# Altium footprint library CPU.PcbLib: 75 footprints (part 3 of 5)
Each footprint in its own frame and in the unit in brackets; x right, y up, seen from the top. Pads: shape width x height; smd on the part's side, far side on the other; paste and mask are expansions set on the pad; w line width, h text height; cw(c..) or ccw(c..) is an arc to the next point about the centre after c.
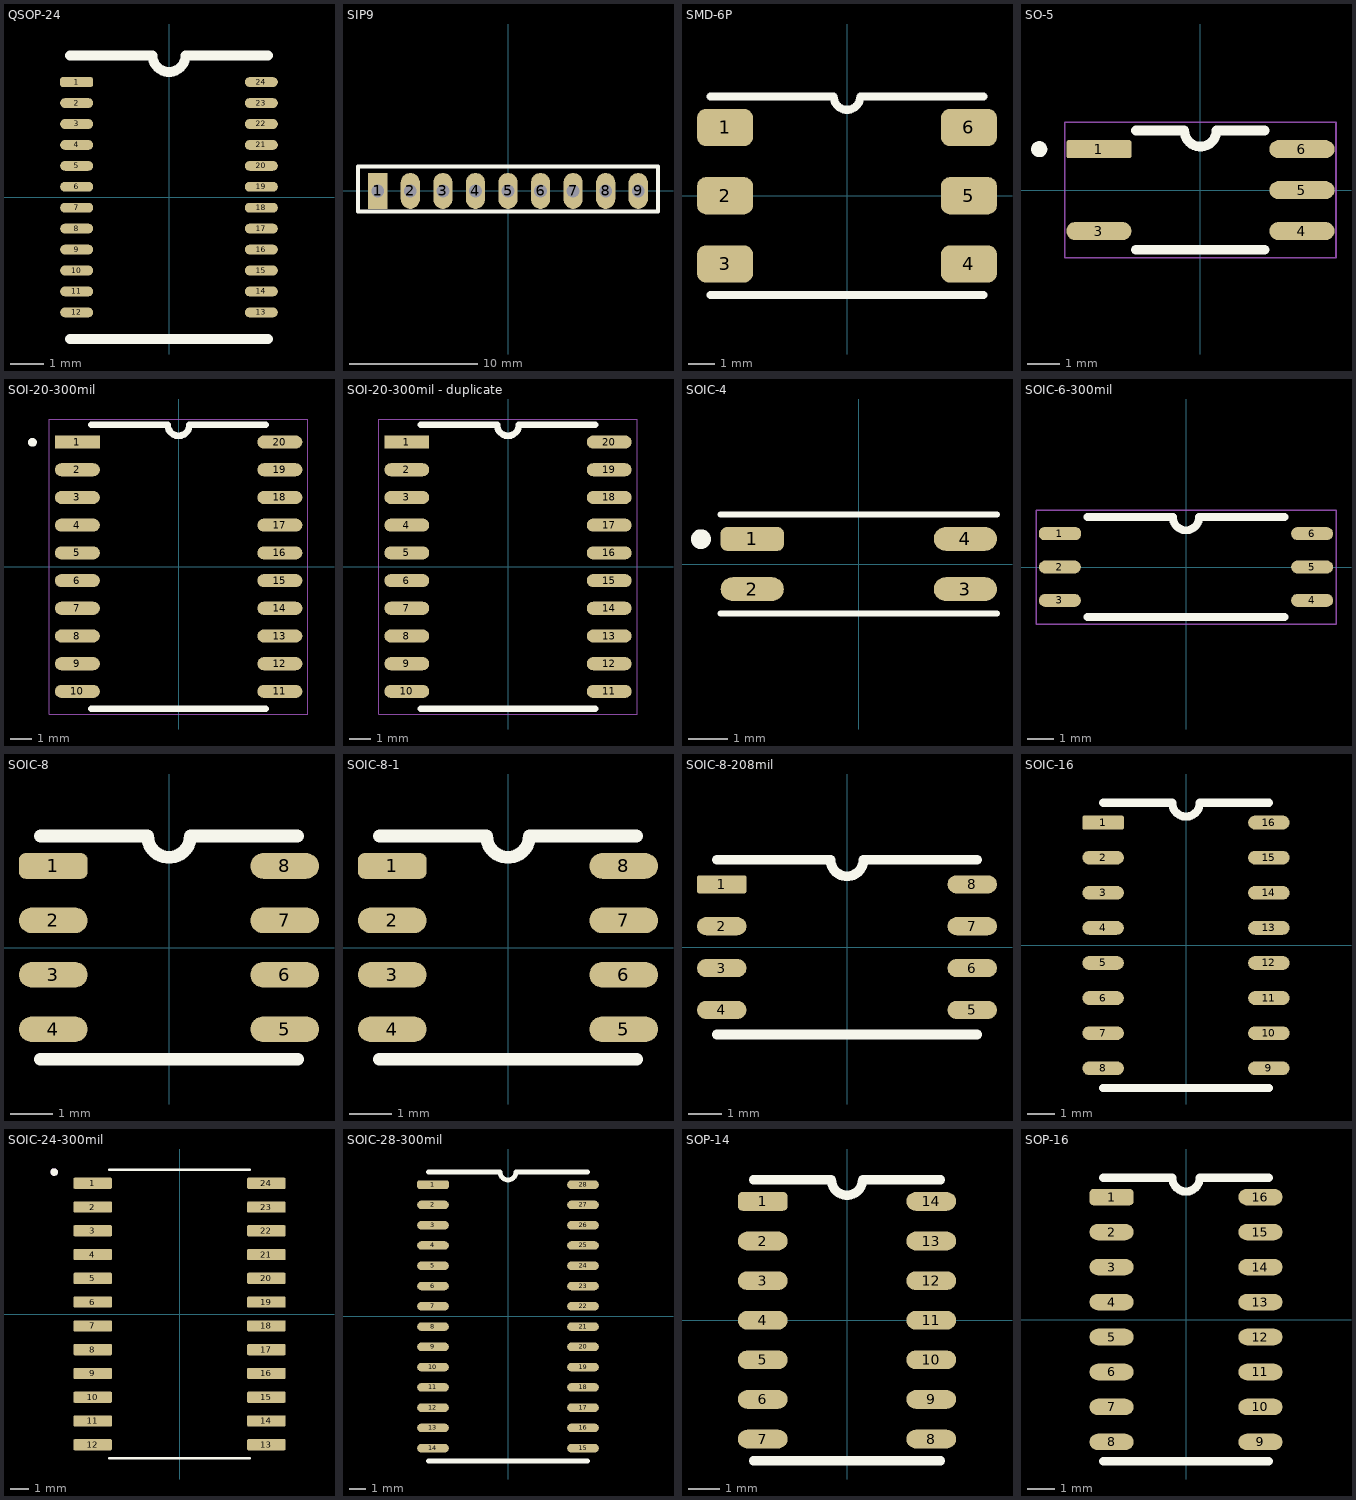
[diagram p2: the footprints below, top view; thin cyan lines are the x and y axes]

## QSOP-24 [mm]
pads (24):
  rrect50% 1x0.3 smd: 1(-2.8,3.492)
  oval 1x0.3 smd: 2(-2.8,2.857) 3(-2.8,2.222) 4(-2.8,1.587) 5(-2.8,0.953) 6(-2.8,0.318) 7(-2.8,-0.318) 8(-2.8,-0.953) 9(-2.8,-1.587) 10(-2.8,-2.222) 11(-2.8,-2.857) 12(-2.8,-3.492) 13(2.8,-3.492) 14(2.8,-2.857) 15(2.8,-2.222) 16(2.8,-1.587) 17(2.8,-0.953) 18(2.8,-0.318) 19(2.8,0.318) 20(2.8,0.953) 21(2.8,1.587) 22(2.8,2.222) 23(2.8,2.857) 24(2.8,3.492)
Top Overlay:
  lines w0.3: -3,-4.3 3,-4.3 ; -3,4.3 -0.5,4.3 ccw(c0,4.3) 0.5,4.3 3,4.3
3D body "C8051F855-C-IU.STEP": height 1.75, standoff 0, extent -3,-4.325 3,4.325

## SIP9 [mm]
pads (9):
  rect 1.5x2.8 hole 1: 1(-10.16,0)
  oval 1.5x2.8 hole 1: 2(-7.62,0) 3(-5.08,0) 4(-2.54,0) 5(0,0) 6(2.54,0) 7(5.08,0) 8(7.62,0) 9(10.16,0)
Top Overlay:
  lines w0.3: -11.7,-1.6 -11.7,1.9 11.7,1.9 11.7,-1.6 -11.7,-1.6
3D body "step_temp.STEP": height 8.95, standoff -3.8, extent -11.66,-1.5 11.66,1.5

## SMD-6P [mm]
pads (6):
  rrect50% 2.09x1.39 smd: 1(-4.54,2.54) 2(-4.54,0) 3(-4.54,-2.54) 4(4.54,-2.54) 5(4.54,0) 6(4.54,2.54)
Top Overlay:
  lines w0.3: -5.08,-3.7 5.08,-3.7 ; -5.08,3.7 -0.5,3.7 ccw(c0,3.7) 0.5,3.7 5.08,3.7
3D body "MOC3021S-TA1.STEP": height 5.09, standoff 0.01, extent -4.583,-4.255 4.583,4.255

## SO-5 [mm]
pads (5):
  rrect25% 2.02x0.56 smd: 1(-3.15,1.27)
  oval 2.02x0.56 smd: 3(-3.15,-1.27) 4(3.15,-1.27) 5(3.15,0) 6(3.15,1.27)
Top Overlay:
  circle w0.3: c-5,1.27 r0.1
  lines w0.3: -2,-1.85 2,-1.85 ; -2,1.85 -0.5,1.85 ccw(c0,1.85) 0.5,1.85 2,1.85
3D:
  circle w0.2: c-5,1.27 r0.1
Mechanical 15:
  lines w0.05: -4.205,-2.1 -4.205,2.1 4.205,2.1 4.205,-2.1 -4.205,-2.1
3D body "step_temp.STEP": height 2.8, standoff 0, extent -3.5,-1.8 3.5,1.8

## SOI-20-300mil [mm]
pads (20):
  rect 2.06x0.6 smd: 1(-4.64,5.715)
  oval 2.06x0.6 smd: 2(-4.64,4.445) 3(-4.64,3.175) 4(-4.64,1.905) 5(-4.64,0.635) 6(-4.64,-0.635) 7(-4.64,-1.905) 8(-4.64,-3.175) 9(-4.64,-4.445) 10(-4.64,-5.715) 11(4.64,-5.715) 12(4.64,-4.445) 13(4.64,-3.175) 14(4.64,-1.905) 15(4.64,-0.635) 16(4.64,0.635) 17(4.64,1.905) 18(4.64,3.175) 19(4.64,4.445) 20(4.64,5.715)
Top Overlay:
  circle w0.2: c-6.7,5.7 r0.1
  lines w0.3: -4,-6.5 4,-6.5 ; -4,6.5 -0.5,6.5 ccw(c0,6.5) 0.5,6.5 4,6.5
Mechanical 15:
  lines w0.05: -5.92,-6.75 5.92,-6.75 5.92,6.75 -5.92,6.75 -5.92,-6.75
3D body "ADM2582EBRWZ-REEL7.STEP": height 2.65, standoff 0, extent -5.162,-6.4 5.162,6.4

## SOI-20-300mil - duplicate [mm]
pads (20):
  rect 2.06x0.6 smd: 1(-4.64,5.715)
  oval 2.06x0.6 smd: 2(-4.64,4.445) 3(-4.64,3.175) 4(-4.64,1.905) 5(-4.64,0.635) 6(-4.64,-0.635) 7(-4.64,-1.905) 8(-4.64,-3.175) 9(-4.64,-4.445) 10(-4.64,-5.715) 11(4.64,-5.715) 12(4.64,-4.445) 13(4.64,-3.175) 14(4.64,-1.905) 15(4.64,-0.635) 16(4.64,0.635) 17(4.64,1.905) 18(4.64,3.175) 19(4.64,4.445) 20(4.64,5.715)
Top Overlay:
  lines w0.3: -4,-6.5 4,-6.5 ; -4,6.5 -0.5,6.5 ccw(c0,6.5) 0.5,6.5 4,6.5
Mechanical 15:
  lines w0.05: -5.92,-6.75 5.92,-6.75 5.92,6.75 -5.92,6.75 -5.92,-6.75
3D body "ADM2582EBRWZ-REEL7.STEP": height 2.65, standoff 0, extent -5.162,-6.4 5.162,6.4

## SOIC-4 [mm]
pads (4):
  rrect50% 1.6x0.6 smd: 1(-2.7,0.635)
  oval 1.6x0.6 smd: 2(-2.7,-0.635) 3(2.7,-0.635) 4(2.7,0.635)
Top Overlay:
  circle w0.3: c-4,0.63 r0.1
  lines w0.15: -3.5,-1.25 3.5,-1.25 ; -3.5,1.25 3.5,1.25

## SOIC-6-300mil [mm]
pads (6):
  rrect85% 1.61x0.5 smd: 1(-4.8,1.27)
  oval 1.6x0.5 smd: 2(-4.8,0) 3(-4.8,-1.27) 4(4.8,-1.27) 5(4.8,0) 6(4.8,1.27)
Top Overlay:
  lines w0.3: -3.75,-1.9 3.75,-1.9 ; -3.75,1.9 -0.5,1.9 ccw(c0,1.9) 0.5,1.9 3.75,1.9
Mechanical 15:
  lines w0.05: -5.71,-2.17 -5.71,2.17 5.71,2.17 5.71,-2.17 -5.71,-2.17
3D body "TLP2745(TP,E.STEP": height 2.3, standoff 0, extent -5,-1.92 5,1.92

## SOIC-8 [mm]
pads (8):
  rrect50% 1.6x0.6 smd: 1(-2.7,1.905)
  oval 1.6x0.6 smd: 2(-2.7,0.635) 3(-2.7,-0.635) 4(-2.7,-1.905) 5(2.7,-1.905) 6(2.7,-0.635) 7(2.7,0.635) 8(2.7,1.905)
Top Overlay:
  lines w0.3: -3,-2.605 3,-2.605 ; -3,2.605 -0.5,2.605 ccw(c0,2.605) 0.5,2.605 3,2.605
3D body "NE555DT.STEP": height 1.75, standoff 0, extent -3,-2.45 3,2.45

## SOIC-8-1 [mm]
pads (8):
  rrect50% 1.6x0.6 smd: 1(-2.7,1.905)
  oval 1.6x0.6 smd: 2(-2.7,0.635) 3(-2.7,-0.635) 4(-2.7,-1.905) 5(2.7,-1.905) 6(2.7,-0.635) 7(2.7,0.635) 8(2.7,1.905)
Top Overlay:
  lines w0.3: -3,-2.605 3,-2.605 ; -3,2.605 -0.5,2.605 ccw(c0,2.605) 0.5,2.605 3,2.605
3D body "8_PIN_SOP.STEP": height 3.31, standoff 0, extent -2.975,-2.44 2.975,2.44

## SOIC-8-208mil [mm]
height 2.16
pads (8):
  rrect25% 1.5x0.55 smd: 1(-3.8,1.905)
  oval 1.5x0.55 smd: 2(-3.8,0.635) 3(-3.8,-0.635) 4(-3.8,-1.905) 5(3.8,-1.905) 6(3.8,-0.635) 7(3.8,0.635) 8(3.8,1.905)
Top Overlay:
  lines w0.3: -3.95,-2.65 3.95,-2.65 ; -3.95,2.65 -0.5,2.65 ccw(c0,2.65) 0.5,2.65 3.95,2.65
3D body "step_temp.STEP": height 2.16, standoff 0, extent -3.95,-2.63 3.95,2.65

## SOIC-16 [mm]
pads (16):
  rrect25% 1.5x0.5 smd: 1(-3,4.445)
  oval 1.5x0.5 smd: 2(-3,3.175) 3(-3,1.905) 4(-3,0.635) 5(-3,-0.635) 6(-3,-1.905) 7(-3,-3.175) 8(-3,-4.445) 9(3,-4.445) 10(3,-3.175) 11(3,-1.905) 12(3,-0.635) 13(3,0.635) 14(3,1.905) 15(3,3.175) 16(3,4.445)
Top Overlay:
  lines w0.3: -3,-5.16 3,-5.16 ; -2.998,5.16 -0.498,5.16 ; -0.5,5.16 ccw(c0,5.16) 0.5,5.16 ; 0.502,5.16 3.002,5.16
3D body "User Library-SOIC-16-1.STEP": height 1.4, standoff 0, extent -3,-4.95 3,4.95

## SOIC-24-300mil [mm]
pads (24):
  rrect25% 2.06x0.6 smd: 1(-4.64,6.985) 2(-4.64,5.715) 3(-4.64,4.445) 4(-4.64,3.175) 5(-4.64,1.905) 6(-4.64,0.635) 7(-4.64,-0.635) 8(-4.64,-1.905) 9(-4.64,-3.175) 10(-4.64,-4.445) 11(-4.64,-5.715) 12(-4.64,-6.985) 13(4.64,-6.985) 14(4.64,-5.715) 15(4.64,-4.445) 16(4.64,-3.175) 17(4.64,-1.905) 18(4.64,-0.635) 19(4.64,0.635) 20(4.64,1.905) 21(4.64,3.175) 22(4.64,4.445) 23(4.64,5.715) 24(4.64,6.985)
Top Overlay:
  circle w0.2: c-6.7,7.585 r0.1
  lines w0.127: -3.75,-7.7 3.75,-7.7 ; -3.75,7.7 3.75,7.7
3D:
  circle w0.2: c-6.7,7.585 r0.1

## SOIC-28-300mil [mil]
pads (28):
  rrect50% 78x21 smd: 1(-185,325)
  oval 78x21 smd: 2(-185,275) 3(-185,225) 4(-185,175) 5(-185,125) 6(-185,75) 7(-185,25) 8(-185,-25) 9(-185,-75) 10(-185,-125) 11(-185,-175) 12(-185,-225) 13(-185,-275) 14(-185,-325) 15(185,-325) 16(185,-275) 17(185,-225) 18(185,-175) 19(185,-125) 20(185,-75) 21(185,-25) 22(185,25) 23(185,75) 24(185,125) 25(185,175) 26(185,225) 27(185,275) 28(185,325)
Top Overlay:
  lines w11.81: -196.85,-356.3 196.85,-356.3 ; -196.85,356.3 -19.68,356.3 ccw(c0,356.3) 19.68,356.3 196.85,356.3
3D body "step_temp.STEP": height 104.33, standoff 0, extent -203.25,-352.36 203.25,352.36

## SOP-14 [mm]
pads (14):
  rrect50% 1.6x0.6 smd: 1(-2.7,3.81)
  oval 1.6x0.6 smd: 2(-2.7,2.54) 3(-2.7,1.27) 4(-2.7,0) 5(-2.7,-1.27) 6(-2.7,-2.54) 7(-2.7,-3.81) 8(2.7,-3.81) 9(2.7,-2.54) 10(2.7,-1.27) 11(2.7,0) 12(2.7,1.27) 13(2.7,2.54) 14(2.7,3.81)
Top Overlay:
  lines w0.3: -3,-4.51 3,-4.51 ; -3,4.51 -0.5,4.51 ccw(c0,4.51) 0.5,4.51 3,4.51
3D body "User Library-SOP14.STEP": height 1.39, standoff 0, extent -3.119,-4.375 3.119,4.375

## SOP-16 [mm]
pads (16):
  rrect50% 1.6x0.6 smd: 1(-2.7,4.445)
  oval 1.6x0.6 smd: 2(-2.7,3.175) 3(-2.7,1.905) 4(-2.7,0.635) 5(-2.7,-0.635) 6(-2.7,-1.905) 7(-2.7,-3.175) 8(-2.7,-4.445) 9(2.7,-4.445) 10(2.7,-3.175) 11(2.7,-1.905) 12(2.7,-0.635) 13(2.7,0.635) 14(2.7,1.905) 15(2.7,3.175) 16(2.7,4.445)
Top Overlay:
  lines w0.3: -3,-5.145 3,-5.145 ; -3,5.145 -0.5,5.145 ccw(c0,5.145) 0.5,5.145 3,5.145
3D body "pam8403dr.stp": height 1.63, standoff 0, extent -3.025,-5 3.025,4.9